# Altium schematic symbol library ic-gate-driver.SchLib: 20 symbols
Pins are listed as number, name and electrical type; pins without a type are passive.

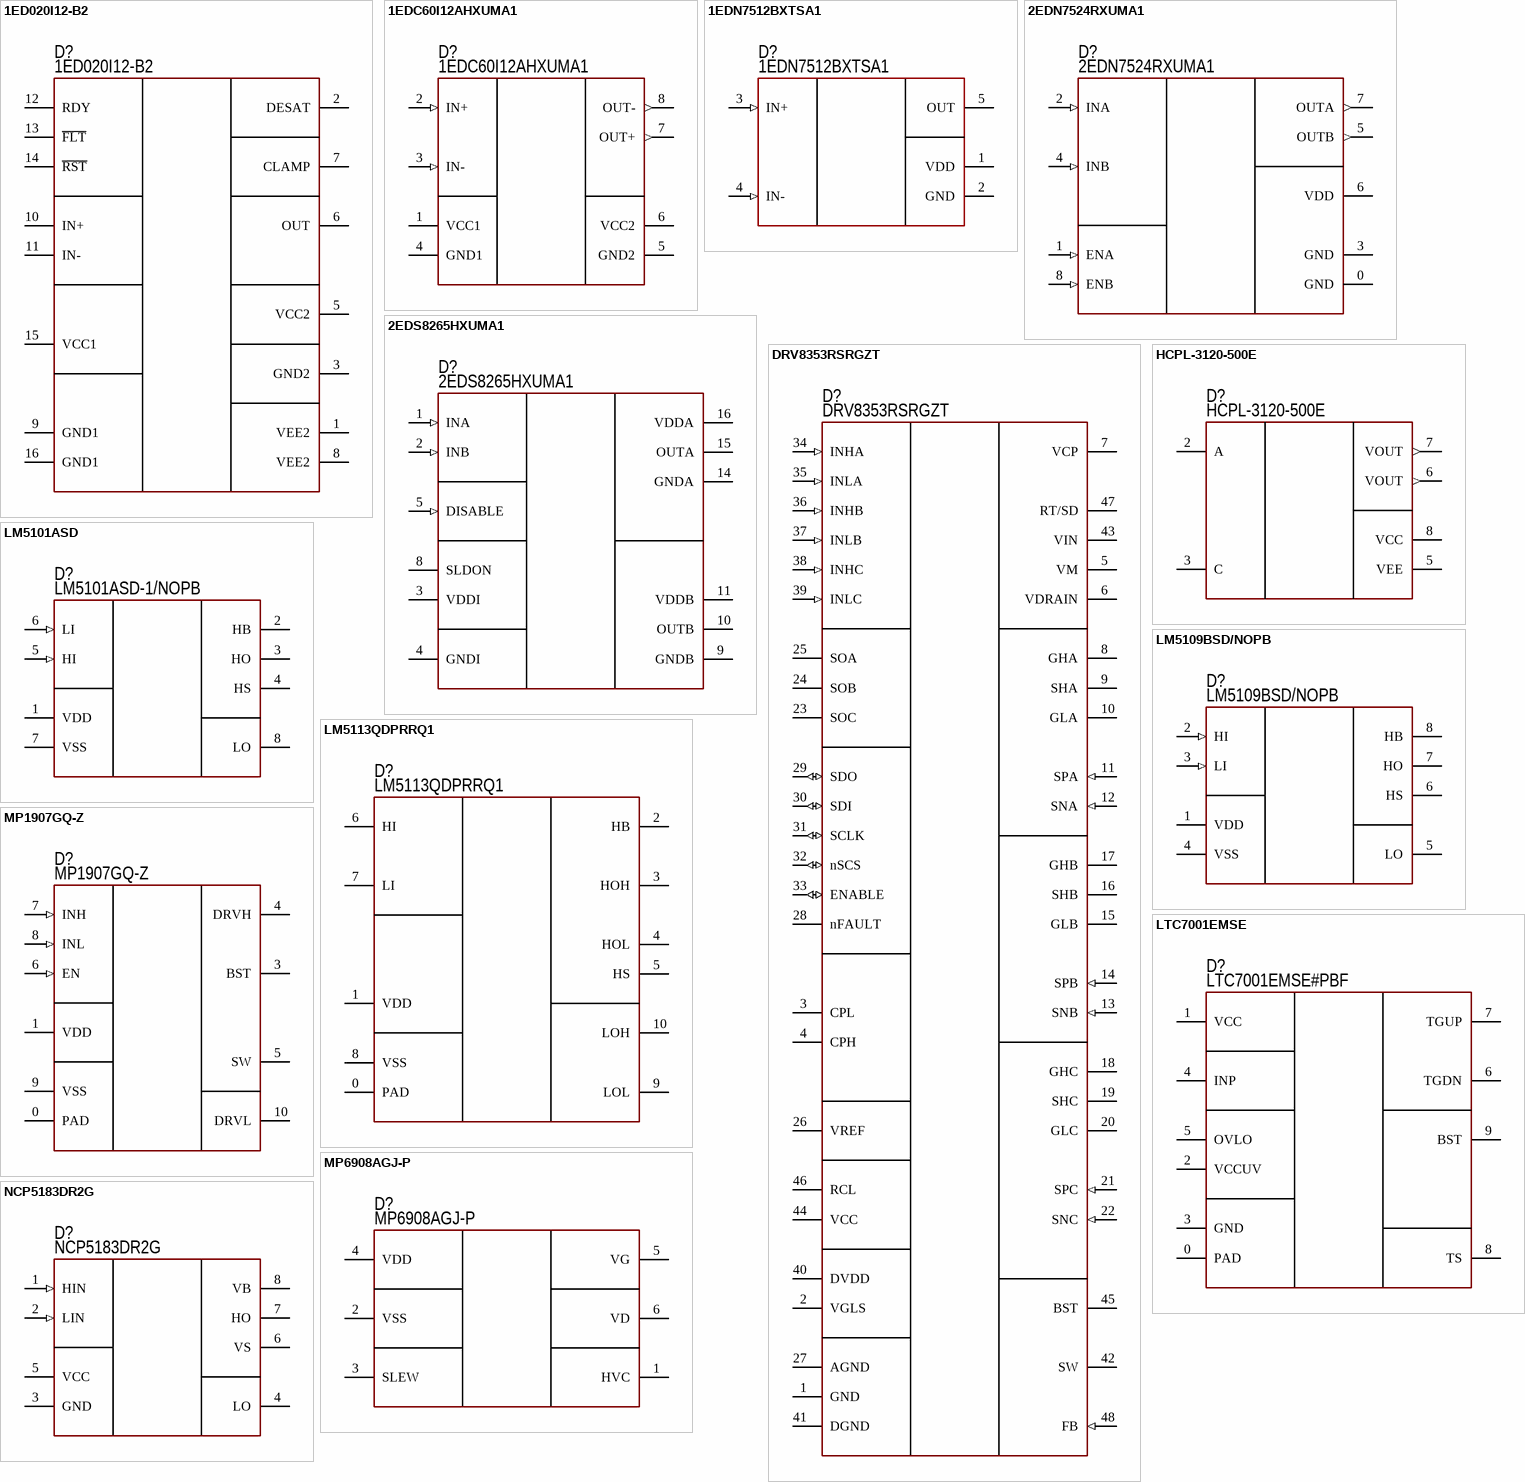
[diagram p0: symbols 1ED020I12-B2 to NCP5183DR2G]

## 1ED020I12-B2
designator D?  PartNumber: 1ED020I12-B2
Gate driver; Manufacturer: Infineon Technologies; ValueManufacturerPartNumber: Isolator gate driver, 1200V, 1MHz, ±2A, 100kV/μs, supply -12...+20V, -40...+150°C, 16-TSSOP; VoltageSupply: supply -12...+20V; Frequency: 1MHz; CurrentOutput: ±2A; VoltageWork: 1200V; CMTI: 100kV/μs; HelpURL: https://ru.mouser.com/ProductDetail/Infineon-Technologies/1ED020I12-B2?qs=SxJJk0kk1p9Jwv3JdBgdAg%3D%3D; Package: 16-TSSOP; ComponentType: Isolator gate driver; Temperature: -40...+150°C
footprint 16-SOIC (pitch 1.27 mm)
pins: 1 VEE2, 2 DESAT, 3 GND2, 5 VCC2, 6 OUT, 7 CLAMP, 8 VEE2, 9 GND1, 10 IN+, 11 IN-, 12 RDY, 13 ~{FLT}, 14 ~{RST}, 15 VCC1, 16 GND1

## 1EDC60I12AHXUMA1
designator D?  PartNumber: 1EDC60I12AHXUMA1
Gate driver; Manufacturer: Infineon Technologies; ValueManufacturerPartNumber: Isolator gate driver, 1200V, 1MHz, ±6A, 100kV/μs, supply 13...35V, -40...+150°C, 8-SOIC; VoltageSupply: supply 13...35V; Frequency: 1MHz; CurrentOutput: ±6A; VoltageWork: 1200V; CMTI: 100kV/μs; HelpURL: https://www.digikey.com/product-detail/en/infineon-technologies/1EDC60I12AHXUMA1/1EDC60I12AHXUMA1CT-ND/8629184; Package: 8-SOIC; ComponentType: Isolator gate driver; Temperature: -40...+150°C
footprint 8-SOIC-W (pitch 1.27 mm, isolator)
pins: 1 VCC1, 2 IN+ (in), 3 IN- (in), 4 GND1, 5 GND2, 6 VCC2, 7 OUT+ (out), 8 OUT- (out)

## 1EDN7512BXTSA1
designator D?  PartNumber: 1EDN7512BXTSA1
Gate driver; Manufacturer: Infineon; ValueManufacturerPartNumber: Low gate driver, Non-Inverting, complementary, +4/-8A, 6.5/4.5ns, 4.5...20V, -55...+150°C, SOT-23-5; VoltageSupply: 4.5...20V; Frequency: complementary; CurrentOutput: +4/-8A; VoltageWork: Non-Inverting; CMTI: 6.5/4.5ns; HelpURL: https://www.digikey.com/en/products/detail/infineon-technologies/1EDN7512BXTSA1/6565753; Package: SOT-23-5; ComponentType: Low gate driver; Temperature: -55...+150°C
footprint SOT23-5 (pitch 0.95 mm)
pins: 1 VDD, 2 GND, 3 IN+ (in), 4 IN- (in), 5 OUT

## 2EDN7524RXUMA1
designator D?  PartNumber: 2EDN7524RXUMA1
Gate driver; Manufacturer: Infineon Technologies; ValueManufacturerPartNumber: Isolator gate driver, 1MHz, ±5A, Independent, supply 4.5...20V, -40...+150°C, 8-MSOP; VoltageSupply: supply 4.5...20V; Frequency: 1MHz; CurrentOutput: ±5A; CMTI: Independent; HelpURL: https://www.digikey.com/product-detail/en/infineon-technologies/2EDN7524RXUMA1/2EDN7524RXUMA1CT-ND/6099120; Package: 8-MSOP; ComponentType: Isolator gate driver; Temperature: -40...+150°C
footprint 8-MSOP-PAD (pitch 0.65 mm, power pad)
pins: 0 GND, 1 ENA (in), 2 INA (in), 3 GND, 4 INB (in), 5 OUTB (out), 6 VDD, 7 OUTA (out), 8 ENB (in)

## 2EDS8265HXUMA1
designator D?  PartNumber: 2EDS8265HXUMA1
Gate driver; Manufacturer: Infineon Technologies; ValueManufacturerPartNumber: Isolator gate driver, up to 10MHz, +4/-8A, Half-bridge, supply 4.5...20V, -40...+150°C, TSSOP-16; VoltageSupply: supply 4.5...20V; Frequency: up to 10MHz; CurrentOutput: +4/-8A; CMTI: Half-bridge; HelpURL: https://ru.mouser.com/ProductDetail/Infineon-Technologies/2EDS8265HXUMA1?qs=%2Fha2pyFadug%252B6kT1X156VYioQKfTX%252BCSSh0ykJ35CPqjxKB4HvVuRg%3D%3D; Package: TSSOP-16; ComponentType: Isolator gate driver; Temperature: -40...+150°C
footprint 16-SOIC (pitch 1.27 mm)
pins: 1 INA (in), 2 INB (in), 3 VDDI, 4 GNDI, 5 DISABLE (in), 8 SLDON, 9 GNDB, 10 OUTB, 11 VDDB, 14 GNDA, 15 OUTA, 16 VDDA

## DRV8353RSRGZT
designator D?  PartNumber: DRV8353RSRGZT
Motor control; Manufacturer: Texas Instruments; ValueManufacturerPartNumber: Motor control, load 9...75V, 200kHz, ±2A, supply 6...95V, -40...+125°C, 48-QFN; VoltageSupply: supply 6...95V; Frequency: 200kHz; CurrentOutput: ±2A; VoltageWork: load 9...75V; HelpURL: https://www.digikey.com/product-detail/en/texas-instruments/DRV8353RSRGZT/296-50273-1-ND/9654095; Package: 48-QFN; ComponentType: Motor control; Temperature: -40...+125°C
footprint 48-QFN (7x7) (7x7 mm, pitch 0.5 mm, power pad)
pins: 1 GND, 2 VGLS, 3 CPL, 4 CPH, 5 VM, 6 VDRAIN, 7 VCP, 8 GHA, 9 SHA, 10 GLA, 11 SPA (in), 12 SNA (in), 13 SNB (in), 14 SPB (in), 15 GLB, 16 SHB, 17 GHB, 18 GHC, 19 SHC, 20 GLC, 21 SPC (in), 22 SNC (in), 23 SOC, 24 SOB, 25 SOA, 26 VREF, 27 AGND, 28 nFAULT, 29 SDO (io), 30 SDI (io), 31 SCLK (io), 32 nSCS (io), 33 ENABLE (io), 34 INHA (in), 35 INLA (in), 36 INHB (in), 37 INLB (in), 38 INHC (in), 39 INLC (in), 40 DVDD, 41 DGND, 42 SW, 43 VIN, 44 VCC, 45 BST, 46 RCL, 47 RT/SD, 48 FB (in)

## HCPL-3120-500E
designator D?  PartNumber: HCPL-3120-500E
Gate driver; Manufacturer: Broadcom Limited; ValueManufacturerPartNumber: Isolator gate driver, 1200V, 100kHz, ±2.5A, 25kV/μs, supply 15...30V, -40...+100°C, 8-SMD; VoltageSupply: supply 15...30V; Frequency: 100kHz; CurrentOutput: ±2.5A; VoltageWork: 1200V; CMTI: 25kV/μs; HelpURL: https://www.digikey.com/product-detail/en/broadcom-limited/HCPL-3120-500E/516-1789-1-ND/1966495; Package: 8-SMD; ComponentType: Isolator gate driver; Temperature: -40...+100°C
footprint IC: HCPL-3120
pins: 2 A, 3 C, 5 VEE, 6 VOUT (out), 7 VOUT (out), 8 VCC

## LM5101ASD
designator D?  PartNumber: LM5101ASD-1/NOPB
Gate driver; Manufacturer: Texas Instruments; ValueManufacturerPartNumber: Half-bridge gate driver, 118V, ±3A, Independent, supply 9...14V, -40...+125°C, 8-WSON (4x4 mm); VoltageSupply: supply 9...14V; Frequency: 118V; CurrentOutput: ±3A; CMTI: Independent; HelpURL: https://www.digikey.com/product-detail/en/texas-instruments/LM5101ASD-1-NOPB/296-40235-1-ND/5178112; Package: 8-WSON (4x4 mm); ComponentType: Half-bridge gate driver; Temperature: -40...+125°C
footprint 8-WSON (4x4) (4x4 mm, pitch 0.8 mm, power pad)
pins: 1 VDD, 2 HB, 3 HO, 4 HS, 5 HI (in), 6 LI (in), 7 VSS, 8 LO

## LM5109BSD/NOPB
designator D?  PartNumber: LM5109BSD/NOPB
Gate driver; Manufacturer: Texas Instruments; ValueManufacturerPartNumber: Half-bridge gate driver, 108V, 500kHz, ±1A, supply 8...14V, -40...+125°C, 8-WSON; VoltageSupply: supply 8...14V; Frequency: 500kHz; CurrentOutput: ±1A; VoltageWork: 108V; HelpURL: https://www.digikey.com/product-detail/en/texas-instruments/LM5109BSD-NOPB/LM5109BSD-NOPBCT-ND/1628697; Package: 8-WSON; ComponentType: Half-bridge gate driver; Temperature: -40...+125°C
footprint 8-WSON (4x4) (4x4 mm, pitch 0.8 mm, power pad)
pins: 1 VDD, 2 HI (in), 3 LI (in), 4 VSS, 5 LO, 6 HS, 7 HO, 8 HB

## LM5113QDPRRQ1
designator D?  PartNumber: LM5113QDPRRQ1
GaN gate driver; Manufacturer: Texas Instruments; ValueManufacturerPartNumber: GaN gate driver, 100V, 2MHz, +1.2/-5A, supply 4.5...5.5V, -40...+125°C, 10-WSON; VoltageSupply: supply 4.5...5.5V; Frequency: 2MHz; CurrentOutput: +1.2/-5A; VoltageWork: 100V; HelpURL: https://www.digikey.com/product-detail/en/texas-instruments/LM5113QDPRRQ1/296-51311-1-ND/9745675; Package: 10-WSON; ComponentType: GaN gate driver; Temperature: -40...+125°C
footprint 10-WSON (4x4 mm, pitch 0.5 mm, power pad)
pins: 0 PAD, 1 VDD, 2 HB, 3 HOH, 4 HOL, 5 HS, 6 HI, 7 LI, 8 VSS, 9 LOL, 10 LOH

## LTC7001EMSE
designator D?  PartNumber: LTC7001EMSE#PBF
High-side driver; Manufacturer: Linear; ValueManufacturerPartNumber: High-side gate driver, 135V, +1.2A/-1.8A, Complementary, supply 3...21V, -40...+125°C, 10-MSOP; VoltageSupply: supply 3...21V; Frequency: 135V; CurrentOutput: +1.2A/-1.8A; CMTI: Complementary; HelpURL: https://www.digikey.com/en/products/detail/analog-devices-inc/LTC7001EMSE-PBF/7363802; Package: 10-MSOP; ComponentType: High-side gate driver; Temperature: -40...+125°C
footprint 10-MSOP-PAD (3x3 mm, pitch 0.5 mm)
pins: 0 PAD, 1 VCC, 2 VCCUV, 3 GND, 4 INP, 5 OVLO, 6 TGDN, 7 TGUP, 8 TS, 9 BST

## MP1907GQ-Z
designator D?  PartNumber: MP1907GQ-Z
Gate driver; Manufacturer: Monolithic Power Systems; ValueManufacturerPartNumber: Half-bridge gate driver, 100V, 500kHz, ±2.5A, supply 4.5...18V, -40...+125°C, 10-VFDFN (3x3); VoltageSupply: supply 4.5...18V; Frequency: 500kHz; CurrentOutput: ±2.5A; VoltageWork: 100V; HelpURL: https://www.digikey.com/product-detail/en/monolithic-power-systems-inc/MP1907GQ-Z/1589-1544-1-ND/9433310; Package: 10-VFDFN (3x3); ComponentType: Half-bridge gate driver; Temperature: -40...+125°C
footprint 10-DFN (3x3 mm, pitch 0.5 mm, power pad)
pins: 0 PAD, 1 VDD, 3 BST, 4 DRVH, 5 SW, 6 EN (in), 7 INH (in), 8 INL (in), 9 VSS, 10 DRVL

## MP6908AGJ-P
designator D?  PartNumber: MP6908AGJ-P
Gate driver; Manufacturer: Monolithic Power; ValueManufacturerPartNumber: Sync rectifier controller, 100µA, up to 600kHz, +0.5A/-3A, supply 4...13V, -40...+125°C, SOT-23-6; VoltageSupply: supply 4...13V; Frequency: up to 600kHz; CurrentOutput: +0.5A/-3A; VoltageWork: 100µA; HelpURL: https://www.digikey.com/product-detail/en/monolithic-power-systems-inc/MP6908AGJ-P/1589-MP6908AGJ-PCT-ND/11621124; Package: SOT-23-6; ComponentType: Sync rectifier controller; Temperature: -40...+125°C
footprint SOT23-6 (pitch 0.95 mm)
pins: 1 HVC, 2 VSS, 3 SLEW, 4 VDD, 5 VG, 6 VD

## NCP5183DR2G
designator D?  PartNumber: NCP5183DR2G
Gate driver; Manufacturer: ON Semiconductor; ValueManufacturerPartNumber: Half-bridge gate driver, 600V, 500kHz, ±4.3A, supply 9...18V, -40...+125°C, 8-SOIC; VoltageSupply: supply 9...18V; Frequency: 500kHz; CurrentOutput: ±4.3A; VoltageWork: 600V; HelpURL: https://www.digikey.com/product-detail/en/on-semiconductor/NCP5183DR2G/NCP5183DR2GOSCT-ND/7066807; Package: 8-SOIC; ComponentType: Half-bridge gate driver; Temperature: -40...+125°C
footprint 8-SOIC (pitch 1.27 mm)
pins: 1 HIN (in), 2 LIN (in), 3 GND, 4 LO, 5 VCC, 6 VS, 7 HO, 8 VB

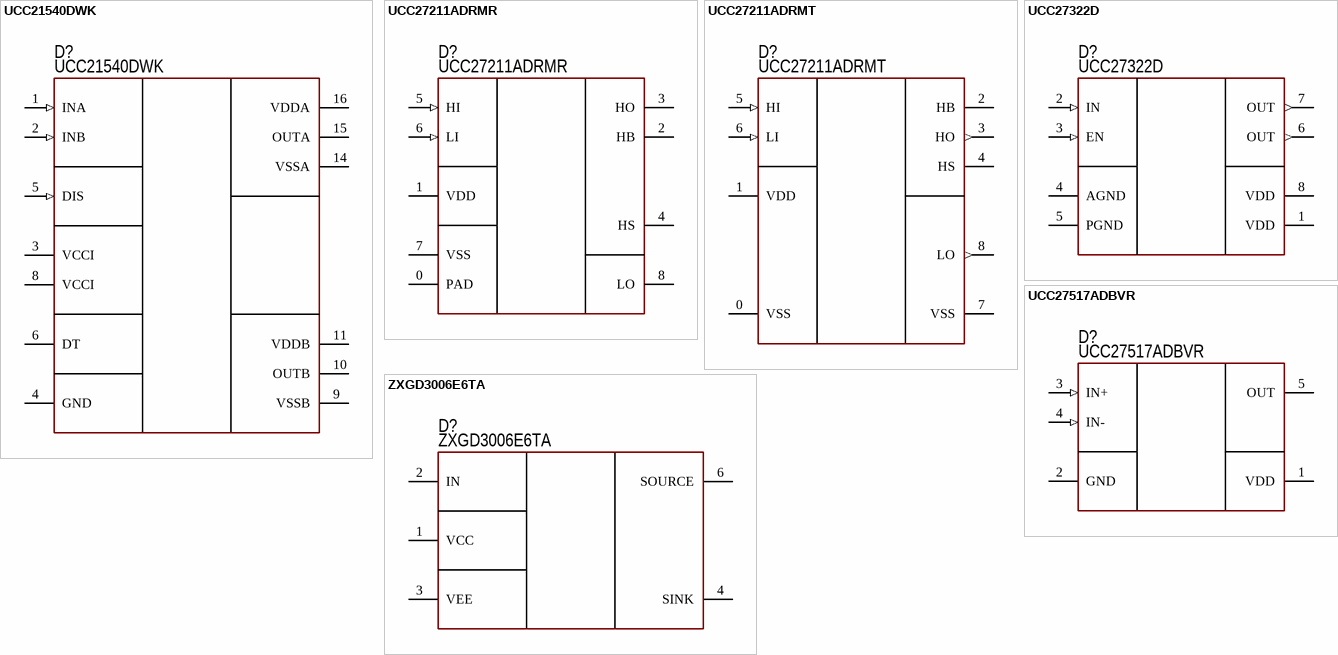
[diagram p1: symbols UCC21540DWK to ZXGD3006E6TA]

## UCC21540DWK
designator D?  PartNumber: UCC21540DWK
Gate driver; Manufacturer: Texas Instruments; ValueManufacturerPartNumber: Isolator gate driver, 1200V, 1MHz, +4/-6A, 100kV/μs, supply 3...5.5V, -40...+125°C, 14-SOIC; VoltageSupply: supply 3...5.5V; Frequency: 1MHz; CurrentOutput: +4/-6A; VoltageWork: 1200V; CMTI: 100kV/μs; HelpURL: https://ru.mouser.com/ProductDetail/Texas-Instruments/UCC21540DWK?qs=sGAEpiMZZMvQcoNRkxSQktujxjvo4yDbZkW1osG6lOI%3D; Package: 14-SOIC; ComponentType: Isolator gate driver; Temperature: -40...+125°C
footprint IC: UCC21540DWK (pitch 1.27 mm)
pins: 1 INA (in), 2 INB (in), 3 VCCI, 4 GND, 5 DIS (in), 6 DT, 8 VCCI, 9 VSSB, 10 OUTB, 11 VDDB, 14 VSSA, 15 OUTA, 16 VDDA

## UCC27211ADRMR
designator D?  PartNumber: UCC27211ADRMR
Gate driver; Manufacturer: Texas Instruments; ValueManufacturerPartNumber: Half-bridge gate driver, 120V, ±4A, Independent, supply 8...17V, -40...+125°C, 8-VSON (4x4 mm); VoltageSupply: supply 8...17V; Frequency: 120V; CurrentOutput: ±4A; CMTI: Independent; HelpURL: https://www.digikey.com/product-detail/en/texas-instruments/UCC27211ADRMR/296-UCC27211ADRMRCT-ND/10665470; Package: 8-VSON (4x4 mm); ComponentType: Half-bridge gate driver; Temperature: -40...+125°C
footprint 8-WSON (4x4) (4x4 mm, pitch 0.8 mm, power pad)
pins: 0 PAD, 1 VDD, 2 HB, 3 HO, 4 HS, 5 HI (in), 6 LI (in), 7 VSS, 8 LO

## UCC27211ADRMT
designator D?  PartNumber: UCC27211ADRMT
Gate driver; Manufacturer: Texas Instruments; ValueManufacturerPartNumber: Half-bridge gate driver, 120V, 500kHz, ±4A, supply 8...17V, -40...+125°C, 8-VSON; VoltageSupply: supply 8...17V; Frequency: 500kHz; CurrentOutput: ±4A; VoltageWork: 120V; HelpURL: https://www.digikey.com/product-detail/en/texas-instruments/UCC27211ADRMT/296-37013-1-ND/4430486; Package: 8-VSON; ComponentType: Half-bridge gate driver; Temperature: -40...+125°C
footprint 8-DFN (4х4) (4x4 mm, pitch 0.8 mm, power pad)
pins: 0 VSS (power), 1 VDD (power), 2 HB (power), 3 HO (out), 4 HS (power), 5 HI (in), 6 LI (in), 7 VSS (power), 8 LO (out)

## UCC27322D
designator D?  PartNumber: UCC27322D
Gate driver; Manufacturer: Texas Instruments; ValueManufacturerPartNumber: Low side gate driver, P+N channel, 500kHz, ±9A, supply 4...15V, -40...+125°C, 8-SOIC; VoltageSupply: supply 4...15V; Frequency: 500kHz; CurrentOutput: ±9A; VoltageWork: P+N channel; HelpURL: https://www.digikey.com/product-detail/en/texas-instruments/UCC27322D/296-13673-5-ND/509705; Package: 8-SOIC; ComponentType: Low side gate driver; Temperature: -40...+125°C
footprint 8-SOIC (pitch 1.27 mm)
pins: 1 VDD, 2 IN (in), 3 EN (in), 4 AGND, 5 PGND, 6 OUT (out), 7 OUT (out), 8 VDD

## UCC27517ADBVR
designator D?  PartNumber: UCC27517ADBVR
Gate driver; Manufacturer: Texas Instruments; ValueManufacturerPartNumber: Low gate driver, inverting/non-inverting, complementary, ±4A, 8/7ns, 4.5...18V, -40...+140°C, SOT-23-5; VoltageSupply: 4.5...18V; Frequency: complementary; CurrentOutput: ±4A; VoltageWork: inverting/non-inverting; CMTI: 8/7ns; HelpURL: https://www.digikey.com/en/products/detail/texas-instruments/UCC27517ADBVR/4342295; Package: SOT-23-5; ComponentType: Low gate driver; Temperature: -40...+140°C
footprint SOT23-5 (pitch 0.95 mm)
pins: 1 VDD, 2 GND, 3 IN+ (in), 4 IN- (in), 5 OUT

## ZXGD3006E6TA
designator D?  PartNumber: ZXGD3006E6TA
Gate driver; Manufacturer: Diodes; ValueManufacturerPartNumber: Low gate driver, Non-Inverting, complementary, ±10A, 48/35ns, max 40V, -55...+150°C, SOT-23-6; VoltageSupply: max 40V; Frequency: complementary; CurrentOutput: ±10A; VoltageWork: Non-Inverting; CMTI: 48/35ns; HelpURL: https://www.digikey.com/product-detail/en/diodes-incorporated/ZXGD3006E6TA/ZXGD3006E6TADICT-ND/3677925; Package: SOT-23-6; ComponentType: Low gate driver; Temperature: -55...+150°C
footprint SOT23-6 (pitch 0.95 mm)
pins: 1 VCC, 2 IN, 3 VEE, 4 SINK, 6 SOURCE